# Altium footprint library DIP794W45P254L959H508Q8.PcbLib: 1 footprints
Each footprint in its own frame and in the unit in brackets; x right, y up, seen from the top. Pads: shape width x height; smd on the part's side, far side on the other; paste and mask are expansions set on the pad; w line width, h text height; cw(c..) or ccw(c..) is an arc to the next point about the centre after c.
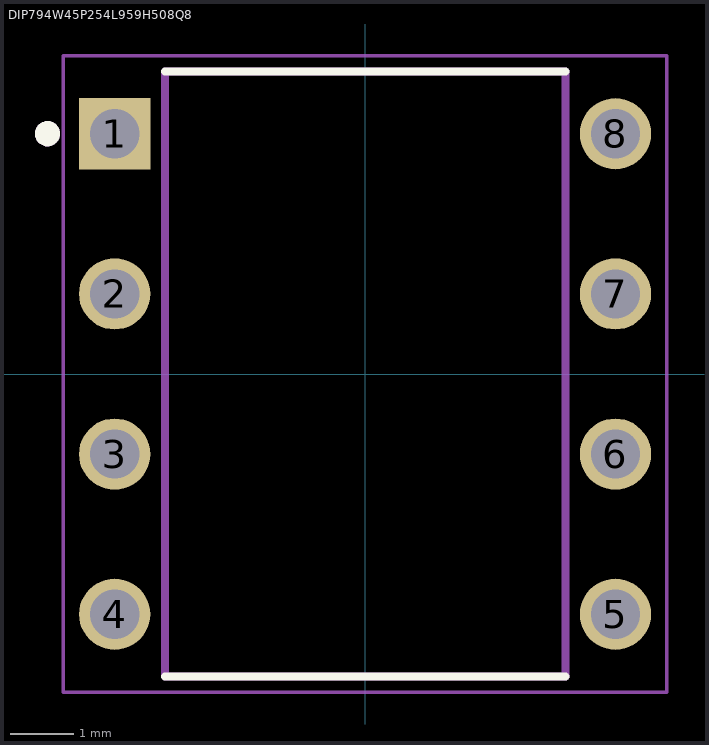
[diagram p0: the footprint, top view; thin cyan lines are the x and y axes]

## DIP794W45P254L959H508Q8 [mm]
pads (8):
  rect 1.13x1.13 hole 0.78: 1(-3.97,3.81)
  round 1.13 hole 0.78: 2(-3.97,1.27) 3(-3.97,-1.27) 4(-3.97,-3.81) 5(3.97,-3.81) 6(3.97,-1.27) 7(3.97,1.27) 8(3.97,3.81)
Top Overlay:
  circle w0.2: c-5.035,3.81 r0.1
  lines w0.127: -3.175,-4.795 3.175,-4.795 ; -3.175,4.795 3.175,4.795
Mechanical 13:
  circle w0.2: c-5.035,3.81 r0.1
  lines w0.127: -3.175,-4.795 -3.175,4.795 3.175,4.795 3.175,-4.795 -3.175,-4.795
Mechanical 15:
  lines w0.05: -4.785,-5.045 -4.785,5.045 4.785,5.045 4.785,-5.045 -4.785,-5.045